# Altium schematic symbol library Power_Protection.SchLib: 1 symbol
Pins are listed as number, name and electrical type; pins without a type are passive.

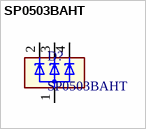
[diagram p0: symbol SP0503BAHT]

## SP0503BAHT
designator D?
TVS Diode Array, 5.5V Standoff, 3 Channels, SOT-143 package
footprint SOT-143 (SOT143, 4-Leads, Body 2.92x2.37mm, Pitch 1.90mm, IPC Medium Density)
pins: 1, 2, 3, 4